# Altium footprint library LED_B38G3RGB-10D0003H2U1930.PcbLib: 1 footprints
Each footprint in its own frame and in the unit in brackets; x right, y up, seen from the top. Pads: shape width x height; smd on the part's side, far side on the other; paste and mask are expansions set on the pad; w line width, h text height; cw(c..) or ccw(c..) is an arc to the next point about the centre after c.
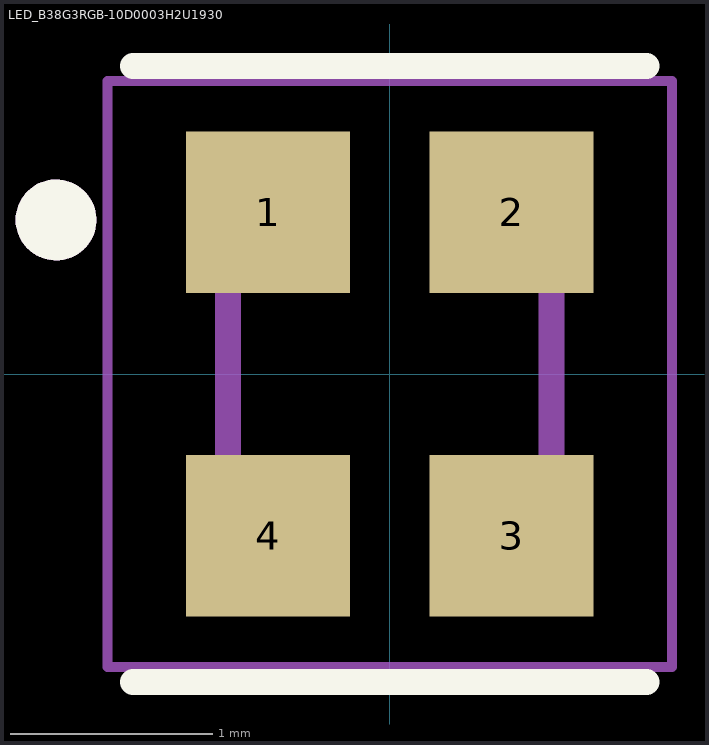
[diagram p0: the footprint, top view; thin cyan lines are the x and y axes]

## LED_B38G3RGB-10D0003H2U1930 [mm]
pads (4):
  rect 0.813x0.8 smd: 1(-0.602,0.8) 2(0.602,0.8) 3(0.602,-0.8) 4(-0.602,-0.8)
Top Overlay:
  circle w0.2: c-1.651,0.762 r0.1
  lines w0.127: -1.27,-1.524 1.27,-1.524 ; -1.27,1.524 1.27,1.524
Mechanical 13:
  circle w0.2: c-1.651,0.762 r0.1
  lines w0.127: -0.8,-0.8 -0.8,0.8 ; 0.8,-0.8 0.8,0.8
Mechanical 15:
  lines w0.05: -1.397,-1.45 1.397,-1.45 1.397,1.45 -1.397,1.45 -1.397,-1.45
3D body "step_temp.STEP": height 0.4, standoff 0, extent -0.8,-0.8 0.8,0.8